# Altium footprint library ESP-32F模组AD封装库.PcbLib: 1 footprints
Each footprint in its own frame and in the unit in brackets; x right, y up, seen from the top. Pads: shape width x height; smd on the part's side, far side on the other; paste and mask are expansions set on the pad; w line width, h text height; cw(c..) or ccw(c..) is an arc to the next point about the centre after c.
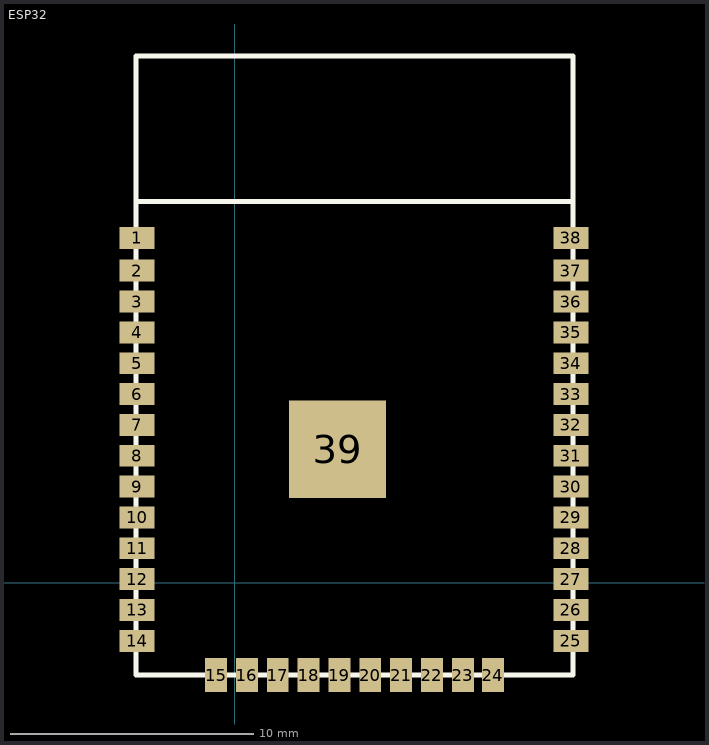
[diagram p0: the footprint, top view; thin cyan lines are the x and y axes]

## ESP32 [mil]
pads (39):
  rect 57x35.43 smd: 1(-158,558.66) 2(-158,505.72) 3(-158,455.72) 4(-158,405.72) 5(-158,355.72) 6(-158,305.72) 7(-158,255.72) 8(-158,205.72) 9(-158,155.72) 10(-158,105.72) 11(-158,55.72) 12(-158,5.72) 13(-158,-44.28) 14(-158,-94.28) 25(545,-94.28) 26(545,-44.28) 27(545,5.72) 28(545,55.72) 29(545,105.72) 30(545,155.72) 31(545,205.72) 32(545,255.72) 33(545,305.72) 34(545,355.72) 35(545,405.72) 36(545,455.72) 37(545,505.72) 38(545,558.66)
  rect 35.43x55 smd: 15(-30.08,-150) 16(19.92,-150) 17(69.92,-150) 18(119.92,-150) 19(169.92,-150) 20(219.92,-150) 21(269.92,-150) 22(319.92,-150) 23(369.92,-150) 24(418.74,-150)
  rect 157.48x157.48 smd: 39(166.77,216.14)
Top Overlay:
  lines w7.87: -160,617.72 548.66,617.72
  lines w8: -160,-150 -160,853.94 548.66,853.94 548.66,-150 -160,-150